# EAGLE library part S6B-PH-SM4-TB (library Header and Connector)
2021 PCB Connector (6 Ways ) Right Angle SMD
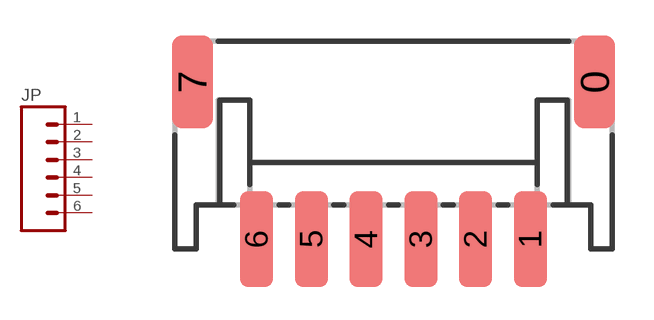
[diagram p18: symbol with the pads of JST-S6B-PH-SM4-TB; footprint JST-S6B-PH-SM4-TB]

Designator prefix JP

## S6B-PH-SM4-TB (CYTRON-PC: CN-2021PSSMD-06; DESC: 2021 PCB Connector Header 6 Ways SMD)  [JST-S6B-PH-SM4-TB]
1  1  pas
2  2  pas
3  3  pas
4  4  pas
5  5  pas
6  6  pas

## Footprint JST-S6B-PH-SM4-TB (pad centres in mm)
smd 1.5 x 3.4: 0 7.35,4.85; 7 -7.35,4.85
smd 1.2 x 3.5: 1 5,-0.9; 2 3,-0.9; 3 1,-0.9; 4 -1,-0.9; 5 -3,-0.9; 6 -5,-0.9